# EAGLE library part TS5V330C (library custom)
Video Switch Quad SPDT 10Ohm 4-5.5V 250MHz Bi-Directional
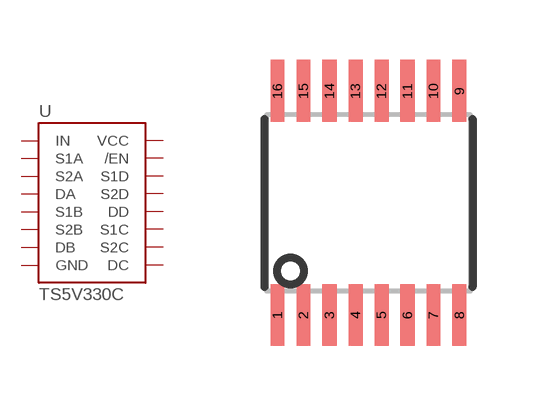
[diagram p104: symbol with the pads of 16-SSOP; footprint 16-SSOP]

Designator prefix U

## TS5V330C  [16-SSOP]
1  IN
2  S1A
3  S2A
4  DA
5  S1B
6  S2B
7  DB
8  GND
9  DC
10  S2C
11  S1C
12  DD
13  S2D
14  S1D
15  /EN
16  VCC

## Footprint 16-SSOP (pad centres in mm)
smd 0.35 x 1.55: 1 -2.275,-2.8; 2 -1.625,-2.8; 3 -0.975,-2.8; 4 -0.325,-2.8; 5 0.325,-2.8; 6 0.975,-2.8; 7 1.625,-2.8; 8 2.275,-2.8; 9 2.275,2.8; 10 1.625,2.8; 11 0.975,2.8; 12 0.325,2.8; 13 -0.325,2.8; 14 -0.975,2.8; 15 -1.625,2.8; 16 -2.275,2.8